# EAGLE library part MCP3424 (library stutz-eagle)
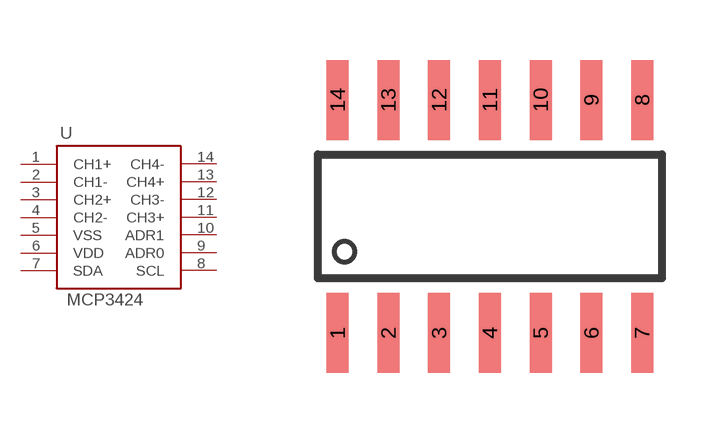
[diagram p11: symbol with the pads of SOIC14; footprint SOIC14]

Designator prefix -

## MCP3424  [SOIC14]
1  CH1+  in
2  CH1-  in
3  CH2+  in
4  CH2-  in
5  VSS  pwr
6  VDD  pwr
7  SDA
8  SCL  in
9  ADR0  in
10  ADR1  in
11  CH3+  in
12  CH3-  in
13  CH4+  in
14  CH4-  in

## Footprint SOIC14 (pad centres in mm)
smd 0.55 x 2: 1 -3.175,-2.915; 2 -1.905,-2.915; 3 -0.635,-2.915; 4 0.635,-2.915; 5 1.905,-2.915; 6 3.175,-2.915; 7 4.445,-2.915; 8 4.445,2.915; 9 3.175,2.915; 10 1.905,2.915; 11 0.635,2.915; 12 -0.635,2.915; 13 -1.905,2.915; 14 -3.175,2.915